# Altium integrated library Library_3Dmouse.IntLib: 9 symbols
Pins are listed as number, name and electrical type; pins without a type are passive.

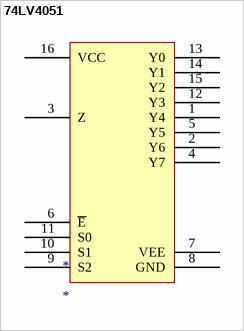
[diagram p0: symbol 74LV4051]

## 74LV4051
designator *
footprint SOIC16_M (SOIC, 16-Leads, Body 9.9x3.9mm, Pitch 1.27mm, IPC Low Density)
pins: 1 Y4, 2 Y6, 3 Z, 4 Y7, 5 Y5, 6 ~{E}, 7 VEE, 8 GND, 9 S2, 10 S1, 11 S0, 12 Y3, 13 Y0, 14 Y1, 15 Y2, 16 VCC


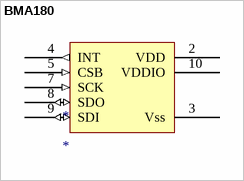
[diagram p1: symbol BMA180]

## BMA180
designator *
footprint LGA12
pins: 2 VDD (power), 3 Vss, 4 INT (out), 5 CSB (in), 7 SCK (in), 8 SDO (io), 9 SDI (io), 10 VDDIO


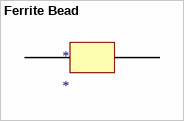
[diagram p2: symbol Ferrite Bead]

## Ferrite Bead
designator *
footprint 6-0805_M (Footprint not found)
pins: 0, 1


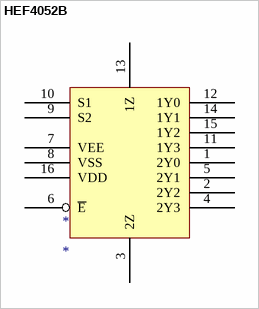
[diagram p3: symbol HEF4052B]

## HEF4052B
designator *
footprint SO16_M (SOIC, 16-Leads, Body 9.9x3.8mm, Pitch 1.27mm, IPC Low Density)
pins: 1 2Y0, 2 2Y2, 3 2Z, 4 2Y3, 5 2Y1, 6 ~{E}, 7 VEE, 8 VSS, 9 S2, 10 S1, 11 1Y3, 12 1Y0, 13 1Z, 14 1Y1, 15 1Y2, 16 VDD


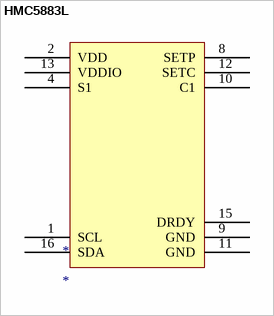
[diagram p4: symbol HMC5883L]

## HMC5883L
designator *
footprint HMC5883L
pins: 1 SCL, 2 VDD, 3 NC hidden, 4 S1, 5 NC hidden, 6 NC hidden, 7 NC hidden, 8 SETP, 9 GND, 10 C1, 11 GND, 12 SETC, 13 VDDIO, 14 NC hidden, 15 DRDY, 16 SDA


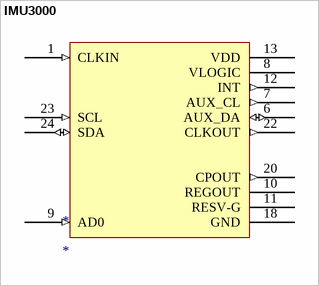
[diagram p5: symbol IMU3000]

## IMU3000
designator *
footprint QFN50P400X400-24V8M (QFN, 24-Leads, Body 4x4mm, Pitch 0.5mm, IPC Low Density)
pins: 1 CLKIN (in), 6 AUX_DA (io), 7 AUX_CL (out), 8 VLOGIC, 9 AD0 (in), 10 REGOUT, 11 RESV-G, 12 INT (out), 13 VDD (power), 18 GND, 20 CPOUT (out), 22 CLKOUT (out), 23 SCL (in), 24 SDA (io)


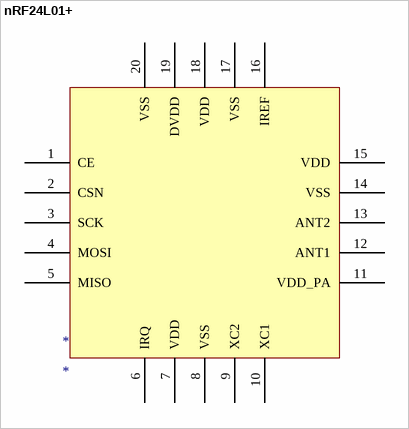
[diagram p6: symbol nRF24L01+]

## nRF24L01+
designator *
footprint QFN50P400X400-20V1L (QFN, 20-Leads, Body 4x4mm, Pitch 0.5mm, IPC High Density)
pins: 1 CE, 2 CSN, 3 SCK, 4 MOSI, 5 MISO, 6 IRQ, 7 VDD, 8 VSS, 9 XC2, 10 XC1, 11 VDD_PA, 12 ANT1, 13 ANT2, 14 VSS, 15 VDD, 16 IREF, 17 VSS, 18 VDD, 19 DVDD, 20 VSS


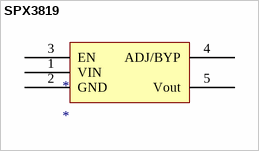
[diagram p7: symbol SPX3819]

## SPX3819
designator *
footprint SOT23-5AL-withhole (SOT23, 5-Leads, Body 2.9x1.6mm, Pitch 0.95mm, Lead Span 2.8mm, IPC High Density)
pins: 1 VIN, 2 GND, 3 EN, 4 ADJ/BYP, 5 Vout


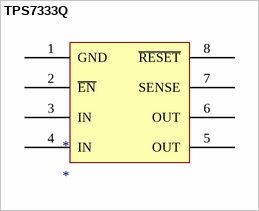
[diagram p8: symbol TPS7333Q]

## TPS7333Q
designator *
footprint SOIC127P600-8BL (SOIC, 8-Leads, Body 4.9x3.9mm, Pitch 1.27mm, IPC High Density)
pins: 1 GND, 2 ~{EN}, 3 IN, 4 IN, 5 OUT, 6 OUT, 7 SENSE, 8 ~{RESET}